# EAGLE library part IC_DIL16 (library dp_devices)
Universal 16 pins IC
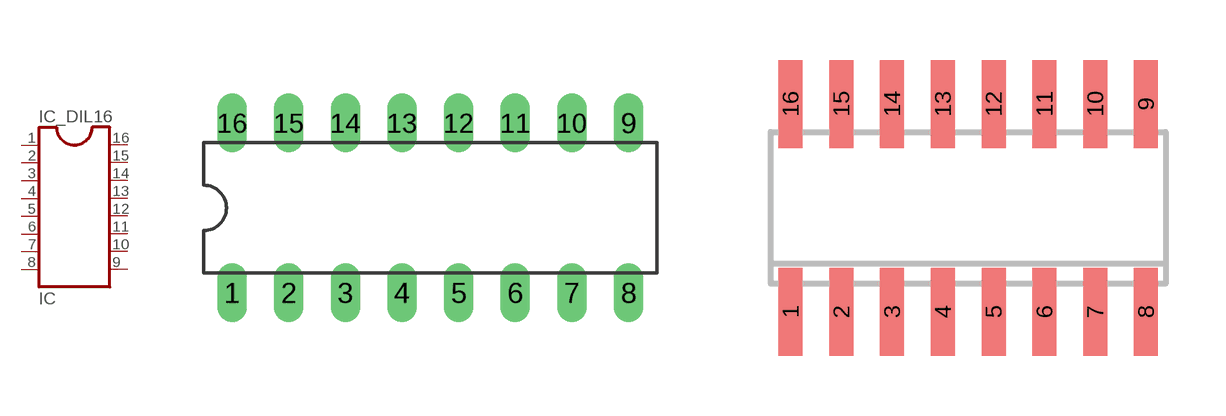
[diagram p130: symbol with the pads of DIL16; footprints DIL16, SOIC-16]

Designator prefix IC

## IC_DIL16-DIP16  [DIL16]
1  1
2  2
3  3
4  4
5  5
6  6
7  7
8  8
9  9
10  10
11  11
12  12
13  13
14  14
15  15
16  16

## IC_DIL16-SOIC-16  [SOIC-16]
Pads as for DIL16

## IC_DIL16-SOIC-16W  [SOIC-16W]
Pads as for DIL16

## IC_DIL16-SOIC-16NW  [SOIC-16NW]
P1  1
P2  2
P3  3
P4  4
P5  5
P6  6
P7  7
P8  8
P9  9
P10  10
P11  11
P12  12
P13  13
P14  14
P15  15
P16  16

## Footprint DIL16 (pad centres in mm)
DIL-16
drill 0.813 long: 1 -8.89,-3.81; 2 -6.35,-3.81; 3 -3.81,-3.81; 4 -1.27,-3.81; 5 1.27,-3.81; 6 3.81,-3.81; 7 6.35,-3.81; 8 8.89,-3.81; 9 8.89,3.81; 10 6.35,3.81; 11 3.81,3.81; 12 1.27,3.81; 13 -1.27,3.81; 14 -3.81,3.81; 15 -6.35,3.81; 16 -8.89,3.81

## Footprint SOIC-16 (pad centres in mm)
smd 0.6 x 2.2: 1 -4.445,-2.6; 2 -3.175,-2.6; 3 -1.905,-2.6; 4 -0.635,-2.6; 5 0.635,-2.6; 6 1.905,-2.6; 7 3.175,-2.6; 8 4.445,-2.6; 9 4.445,2.6; 10 3.175,2.6; 11 1.905,2.6; 12 0.635,2.6; 13 -0.635,2.6; 14 -1.905,2.6; 15 -3.175,2.6; 16 -4.445,2.6

## Footprint SOIC-16W (pad centres in mm)
smd 0.6 x 2.2: 1 -4.445,-4.6; 2 -3.175,-4.6; 3 -1.905,-4.6; 4 -0.635,-4.6; 5 0.635,-4.6; 6 1.905,-4.6; 7 3.175,-4.6; 8 4.445,-4.6; 9 4.445,4.6; 10 3.175,4.6; 11 1.905,4.6; 12 0.635,4.6; 13 -0.635,4.6; 14 -1.905,4.6; 15 -3.175,4.6; 16 -4.445,4.6

## Footprint SOIC-16NW (pad centres in mm)
SSOP-16 Narrow - Wide Pad size: 0.6 x 3.56 mm Pad pitch: 1.27mm Pad pitch lateral: 7.56mm
smd 0.6 x 3.56: P1 -4.445,-3.78; P2 -3.175,-3.78; P3 -1.905,-3.78; P4 -0.635,-3.78; P5 0.635,-3.78; P6 1.905,-3.78; P7 3.175,-3.78; P8 4.445,-3.78; P9 4.445,3.78; P10 3.175,3.78; P11 1.905,3.78; P12 0.635,3.78; P13 -0.635,3.78; P14 -1.905,3.78; P15 -3.175,3.78; P16 -4.445,3.78